# EAGLE library part ATSAM4N8AA-? (library ic-ATMEL)
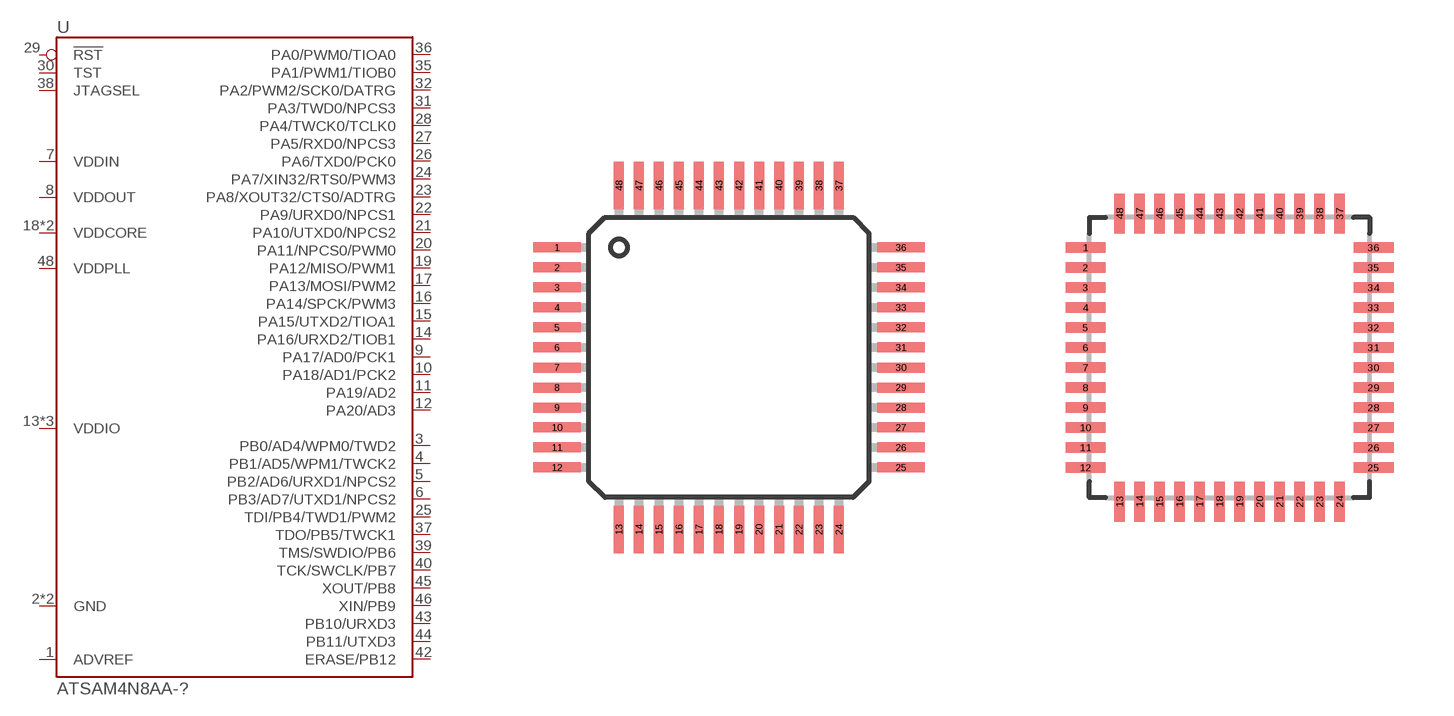
[diagram p15: symbol with the pads of QFP48-0.5; footprints QFP48-0.5, QFN48-0.5-NOPAD]

Designator prefix U

## ATSAM4N8AA-AU  [QFP48-0.5]
1  ADVREF
2  GND
3  PB0/AD4/WPM0/TWD2
4  PB1/AD5/WPM1/TWCK2
5  PB2/AD6/URXD1/NPCS2
6  PB3/AD7/UTXD1/NPCS2
7  VDDIN
8  VDDOUT
9  PA17/AD0/PCK1
10  PA18/AD1/PCK2
11  PA19/AD2
12  PA20/AD3
13  VDDIO
14  PA16/URXD2/TIOB1
15  PA15/UTXD2/TIOA1
16  PA14/SPCK/PWM3
17  PA13/MOSI/PWM2
18  VDDCORE
19  PA12/MISO/PWM1
20  PA11/NPCS0/PWM0
21  PA10/UTXD0/NPCS2
22  PA9/URXD0/NPCS1
23  PA8/XOUT32/CTS0/ADTRG
24  PA7/XIN32/RTS0/PWM3
25  TDI/PB4/TWD1/PWM2
26  PA6/TXD0/PCK0
27  PA5/RXD0/NPCS3
28  PA4/TWCK0/TCLK0
29  !RST
30  TST
31  PA3/TWD0/NPCS3
32  PA2/PWM2/SCK0/DATRG
33  VDDIO
34  GND
35  PA1/PWM1/TIOB0
36  PA0/PWM0/TIOA0
37  TDO/PB5/TWCK1
38  JTAGSEL
39  TMS/SWDIO/PB6
40  TCK/SWCLK/PB7
41  VDDCORE
42  ERASE/PB12
43  PB10/URXD3
44  PB11/UTXD3
45  XOUT/PB8
46  XIN/PB9
47  VDDIO
48  VDDPLL

## ATSAM4N8AA-MU-NOPAD  [QFN48-0.5-NOPAD]
Pads as for QFP48-0.5

## Footprint QFP48-0.5 (pad centres in mm)
smd 1.2 x 0.25: 1 -4.3,2.75; 2 -4.3,2.25; 3 -4.3,1.75; 4 -4.3,1.25; 5 -4.3,0.75; 6 -4.3,0.25; 7 -4.3,-0.25; 8 -4.3,-0.75; 9 -4.3,-1.25; 10 -4.3,-1.75; 11 -4.3,-2.25; 12 -4.3,-2.75; 25 4.3,-2.75; 26 4.3,-2.25; 27 4.3,-1.75; 28 4.3,-1.25; 29 4.3,-0.75; 30 4.3,-0.25; 31 4.3,0.25; 32 4.3,0.75; 33 4.3,1.25; 34 4.3,1.75; 35 4.3,2.25; 36 4.3,2.75
smd 0.25 x 1.2: 13 -2.75,-4.3; 14 -2.25,-4.3; 15 -1.75,-4.3; 16 -1.25,-4.3; 17 -0.75,-4.3; 18 -0.25,-4.3; 19 0.25,-4.3; 20 0.75,-4.3; 21 1.25,-4.3; 22 1.75,-4.3; 23 2.25,-4.3; 24 2.75,-4.3; 37 2.75,4.3; 38 2.25,4.3; 39 1.75,4.3; 40 1.25,4.3; 41 0.75,4.3; 42 0.25,4.3; 43 -0.25,4.3; 44 -0.75,4.3; 45 -1.25,4.3; 46 -1.75,4.3; 47 -2.25,4.3; 48 -2.75,4.3

## Footprint QFN48-0.5-NOPAD (pad centres in mm)
smd 1 x 0.27: 1 -3.6,2.75; 2 -3.6,2.25; 3 -3.6,1.75; 4 -3.6,1.25; 5 -3.6,0.75; 6 -3.6,0.25; 7 -3.6,-0.25; 8 -3.6,-0.75; 9 -3.6,-1.25; 10 -3.6,-1.75; 11 -3.6,-2.25; 12 -3.6,-2.75; 25 3.6,-2.75; 26 3.6,-2.25; 27 3.6,-1.75; 28 3.6,-1.25; 29 3.6,-0.75; 30 3.6,-0.25; 31 3.6,0.25; 32 3.6,0.75; 33 3.6,1.25; 34 3.6,1.75; 35 3.6,2.25; 36 3.6,2.75
smd 0.27 x 1: 13 -2.75,-3.6; 14 -2.25,-3.6; 15 -1.75,-3.6; 16 -1.25,-3.6; 17 -0.75,-3.6; 18 -0.25,-3.6; 19 0.25,-3.6; 20 0.75,-3.6; 21 1.25,-3.6; 22 1.75,-3.6; 23 2.25,-3.6; 24 2.75,-3.6; 37 2.75,3.6; 38 2.25,3.6; 39 1.75,3.6; 40 1.25,3.6; 41 0.75,3.6; 42 0.25,3.6; 43 -0.25,3.6; 44 -0.75,3.6; 45 -1.25,3.6; 46 -1.75,3.6; 47 -2.25,3.6; 48 -2.75,3.6